# Altium schematic symbol library Pieces.SchLib: 3 symbols
Pins are listed as number, name and electrical type; pins without a type are passive.

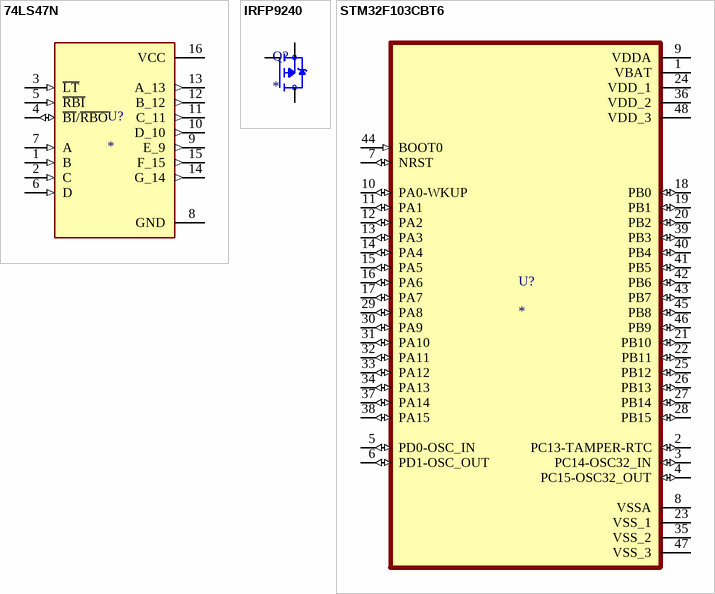
[diagram p0: symbols 74LS47N to STM32F103CBT6]

## 74LS47N
designator U?
IC DRVR BCD-7 SEGMENT 16SO; MF: Texas Instruments; MP: 74LS47N; SnapEDA_Link: https://www.snapeda.com/parts/74LS47N/Texas+Instruments/view-part/?ref=snap; Package: PDIP-16 Texas Instruments; Value: *; Check_prices: https://www.snapeda.com/parts/74LS47N/Texas+Instruments/view-part/?ref=eda
footprint DIP794W45P254L1930H508Q16
pins: 1 B (in), 2 C (in), 3 ~{LT} (in), 4 ~{BI}/~{RBO} (io), 5 ~{RBI} (in), 6 D (in), 7 A (in), 8 GND (power), 9 E_9 (out), 10 D_10 (out), 11 C_11 (out), 12 B_12 (out), 13 A_13 (out), 14 G_14 (out), 15 F_15 (out), 16 VCC (power)

## IRFP9240
designator Q?
P-Channel 200 V 12A (Tc) 150W (Tc) Ø¹Ø¨Ø± Ø§Ù„ÙØªØ­Ø© TO-247AC; MP: IRFP9240; MF: Vishay Siliconix; Price: None; Availability: In Stock; Package: TO-247 Vishay Siliconix; Check_prices: https://www.snapeda.com/parts/IRFP9240/Vishay+Siliconix/view-part/?ref=eda; Value: *; SnapEDA_Link: https://www.snapeda.com/parts/IRFP9240/Vishay+Siliconix/view-part/?ref=snap; Purchase-URL: https://pricing.snapeda.com/search/part/IRFP9240/?ref=eda
footprint TO-247_XA.AMP.P
pins: D, G, S

## STM32F103CBT6
designator U?
ARMÂ® CortexÂ®-M3 STM32F1 Microcontroller IC 32-Bit Single-Core 72MHz 128KB (128K x 8) FLASH; MF: STMicroelectronics; MP: STM32F103CBT6; SnapEDA_Link: https://www.snapeda.com/parts/STM32F103CBT6/STMicroelectronics/view-part/?ref=snap; Package: LQFP-48 STMicroelectronics; Value: *; Check_prices: https://www.snapeda.com/parts/STM32F103CBT6/STMicroelectronics/view-part/?ref=eda
footprint QFP50P900X900X160-48N
pins: 1 VBAT (power), 2 PC13-TAMPER-RTC (io), 3 PC14-OSC32_IN (io), 4 PC15-OSC32_OUT (io), 5 PD0-OSC_IN (io), 6 PD1-OSC_OUT (io), 7 NRST (io), 8 VSSA (power), 9 VDDA (power), 10 PA0-WKUP (io), 11 PA1 (io), 12 PA2 (io), 13 PA3 (io), 14 PA4 (io), 15 PA5 (io), 16 PA6 (io), 17 PA7 (io), 18 PB0 (io), 19 PB1 (io), 20 PB2 (io), 21 PB10 (io), 22 PB11 (io), 23 VSS_1 (power), 24 VDD_1 (power), 25 PB12 (io), 26 PB13 (io), 27 PB14 (io), 28 PB15 (io), 29 PA8 (io), 30 PA9 (io), 31 PA10 (io), 32 PA11 (io), 33 PA12 (io), 34 PA13 (io), 35 VSS_2 (power), 36 VDD_2 (power), 37 PA14 (io), 38 PA15 (io), 39 PB3 (io), 40 PB4 (io), 41 PB5 (io), 42 PB6 (io), 43 PB7 (io), 44 BOOT0 (in), 45 PB8 (io), 46 PB9 (io), 47 VSS_3 (power), 48 VDD_3 (power)